# Altium schematic symbol library Display.SchLib: 1 symbol
Pins are listed as number, name and electrical type; pins without a type are passive.

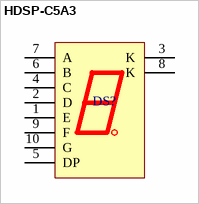
[diagram p0: symbol HDSP-C5A3]

## HDSP-C5A3
designator DS?  (value not drawn)
Part number: 1830014; Manufacturer: AVAGO TECHNOLOGIES; Character Size: 13.1mm; Common Connection: Common Cathode; Forward Current If: 20mA; Forward Voltage: 1.85V; LED Colour: Red; Luminous Intensity: 4mcd; Supplier: Farnell
footprint HDSP-C5E3
pins: 1 E, 2 D, 3 K, 4 C, 5 DP, 6 B, 7 A, 8 K, 9 F, 10 G